# Altium footprint library CRYSTAL_SMD.PcbLib: 6 footprints
Each footprint in its own frame and in the unit in brackets; x right, y up, seen from the top. Pads: shape width x height; smd on the part's side, far side on the other; paste and mask are expansions set on the pad; w line width, h text height; cw(c..) or ccw(c..) is an arc to the next point about the centre after c.
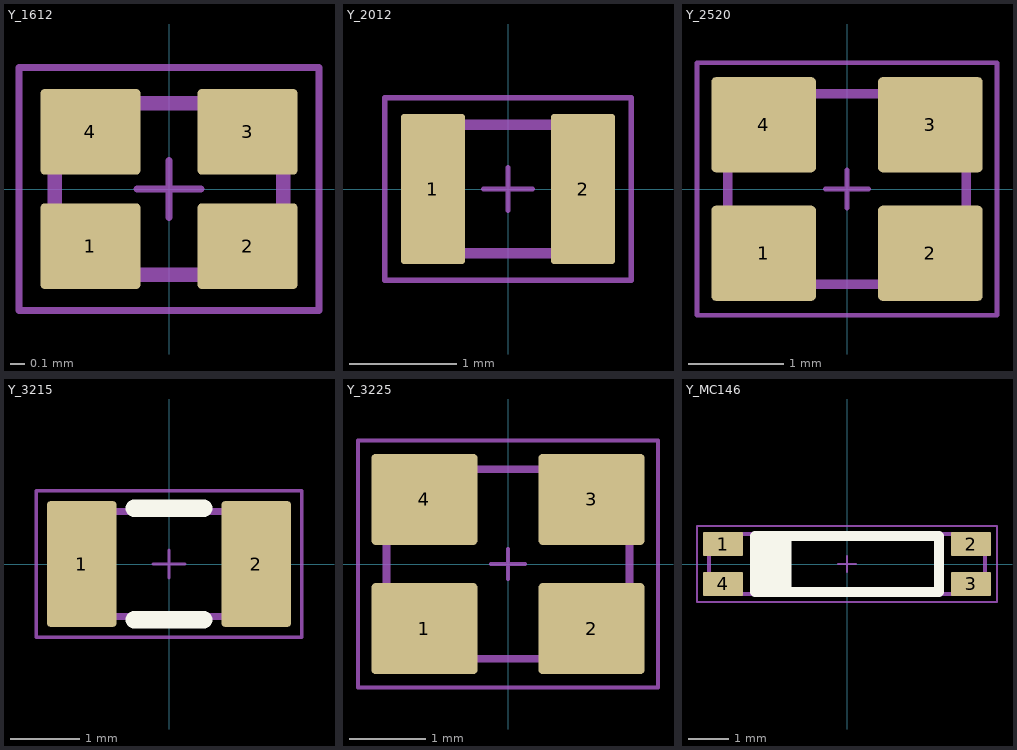
[diagram p0: the footprints below, top view; thin cyan lines are the x and y axes]

## Y_1612 [mm] "Crystal SMD_1612"
pads (4):
  rrect10% 0.7x0.6 smd: 1(-0.55,-0.4) 2(0.55,-0.4) 3(0.55,0.4) 4(-0.55,0.4)
Mechanical 13:
  lines w0.1: -0.8,-0.6 0.8,-0.6 0.8,0.6 -0.8,0.6 -0.8,-0.6
Mechanical 15:
  lines w0.05: -0.225,0 0.225,0 ; 0,-0.2 0,0.2 ; -1.05,-0.85 1.05,-0.85 1.05,0.85 -1.05,0.85 -1.05,-0.85
3D body "SMD_1612.step": height 0.33, standoff 0, extent -0.802,-0.602 0.802,0.602

## Y_2012 [mm] "Crystal SMD_2012"
pads (2):
  rrect10% 0.6x1.4 smd: 1(-0.7,0) 2(0.7,0)
Mechanical 13:
  lines w0.1: -0.8,-0.6 0.8,-0.6 0.8,0.6 -0.8,0.6 -0.8,-0.6
Mechanical 15:
  lines w0.05: -0.225,0 0.225,0 ; 0,-0.2 0,0.2 ; -1.15,-0.85 -1.15,0.85 1.15,0.85 1.15,-0.85 -1.15,-0.85
3D body "NX2012SA-32.768K-STD-MUB-1--3DModel-STEP-510211.STEP": height 0.6, standoff 0, extent -1.025,-0.6 1.025,0.6

## Y_2520 [mm] "Crystal SMD_2520"
pads (4):
  rrect10% 1.1x1 smd: 1(-0.875,-0.675) 2(0.875,-0.675) 3(0.875,0.675) 4(-0.875,0.675)
Mechanical 13:
  lines w0.1: -1.25,-1 1.25,-1 1.25,1 -1.25,1 -1.25,-1
Mechanical 15:
  lines w0.05: -0.225,0 0.225,0 ; 0,-0.2 0,0.2 ; -1.575,-1.325 -1.575,1.325 1.575,1.325 1.575,-1.325 -1.575,-1.325
3D body "SMD_2520.STEP": height 0.7, standoff 0, extent -1.25,-1 1.25,1

## Y_3215 [mm] "Crystal SMD_3215"
pads (2):
  rrect10% 1x1.8 smd: 1(-1.25,0) 2(1.25,0)
Top Overlay:
  lines w0.25: -0.5,-0.8 0.5,-0.8 ; -0.5,0.8 0.5,0.8
Mechanical 13:
  lines w0.1: -1.6,-0.75 1.6,-0.75 1.6,0.75 -1.6,0.75 -1.6,-0.75
Mechanical 15:
  lines w0.05: -0.225,0 0.225,0 ; 0,-0.2 0,0.2 ; -1.9,-1.05 1.9,-1.05 1.9,1.05 -1.475,1.05 -1.9,1.05 -1.9,-1.05
3D body "SMD_3215.STEP": height 0.8, standoff 0, extent -1.6,-0.75 1.6,0.75

## Y_3225 [mm] "Crystal SMD_3225"
pads (4):
  rrect10% 1.4x1.2 smd: 1(-1.1,-0.85) 2(1.1,-0.85) 3(1.1,0.85) 4(-1.1,0.85)
Mechanical 13:
  lines w0.1: -1.6,-1.25 1.6,-1.25 1.6,1.25 -1.6,1.25 -1.6,-1.25
Mechanical 15:
  lines w0.05: -0.225,0 0.225,0 ; 0,-0.2 0,0.2 ; -1.975,-1.625 -1.975,1.625 1.975,1.625 1.975,-1.625 -1.975,-1.625
3D body "SMD_3225_1.STEP": height 0.65, standoff -0.05, extent -1.6,-1.25 1.6,1.25

## Y_MC146 [mm] "Crystal SMD MC146"
pads (4):
  rrect10% 1x0.6 smd: 1(-3.1,0.5) 2(3.1,0.5) 3(3.1,-0.5) 4(-3.1,-0.5)
Top Overlay:
  region: -2.3,0.7 -2.3,-0.7 -1.4,-0.7 -1.4,0.7
  lines w0.25: -2.3,-0.7 -2.3,0.7 2.3,0.7 2.3,-0.7 -2.3,-0.7
Mechanical 13:
  lines w0.1: -3.45,-0.75 3.45,-0.75 3.45,0.75 -3.45,0.75 -3.45,-0.75
Mechanical 15:
  lines w0.05: -0.225,0 0.225,0 ; 0,-0.2 0,0.2 ; -3.75,-0.95 -3.75,0.95 -3.3,0.95 3.75,0.95 3.75,-0.95 -3.75,-0.95
3D body "MC146.step": height 1.45, standoff 0, extent -3.45,-0.75 3.45,0.75